# Altium schematic symbol library B220-13-F.SchLib: 2 symbols
Pins are listed as number, name and electrical type; pins without a type are passive.

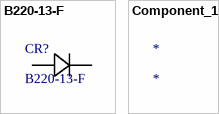
[diagram p0: symbols B220-13-F to Component_1]

## B220-13-F
designator CR?
No Description Available; Mfr_Name: Diodes Inc; Type: DEV; Copyright: Copyright (C) 2022 Ultra Librarian. All rights reserved.; Manufacturer_Part_Number: B220-13-F; Digi-Key_Part_Number_1: B220-FDICT-ND; Digi-Key_Part_Number_2: B220-FDIDKR-ND; Digi-Key_Part_Number_3: B220-FDITR-ND; RefDes: RefDes
footprint SMB_DIO
pins: 1, 2

## Component_1
designator *